# EAGLE library part 50362426 (library Connectors-Molex)
Mini-Fit Jr. Header -16 Circuits
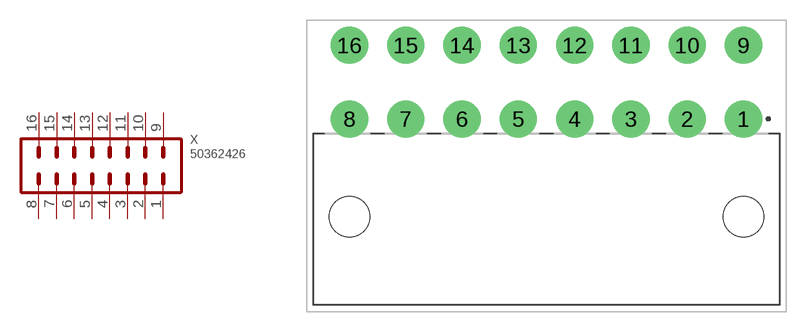
[diagram p0: symbol with the pads of 0050362426; footprint 0050362426]

Designator prefix X

## 50362426 (DATASHEET: https://www.molex.com/pdm_docs/sd/050362426_sd.pdf; DESCRIPTION: Connector Header Through Hole, Right Angle 16 position 0.165" (4.20mm); LINK: https://www.digikey.in/product-detail/en/molex/0050362426/WM19569-ND/4425987; MANUFACTURER: Molex; MPN: 0050362426; PACKAGE: Value)  [0050362426]
1  1
2  2
3  3
4  4
5  5
6  6
7  7
8  8
9  9
10  10
11  11
12  12
13  13
14  14
15  15
16  16

## Footprint 0050362426 (pad centres in mm)
CONN HEADER R/A 16POS 4.2MM
drill 1.85 pad 2.775: 1 29.4,0; 2 25.2,0; 3 21,0; 4 16.8,0; 5 12.6,0; 6 8.4,0; 7 4.2,0; 8 0,0; 9 29.4,5.5; 10 25.2,5.5; 11 21,5.5; 12 16.8,5.5; 13 12.6,5.5; 14 8.4,5.5; 15 4.2,5.5; 16 0,5.5
hole 3 at 0,-7.3
hole 3 at 29.4,-7.3